# Altium schematic symbol library ABRA-ASH7K-4.SchLib: 1 symbol
Pins are listed as number, name and electrical type; pins without a type are passive.

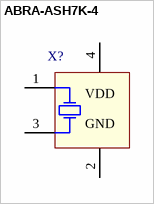
[diagram p0: symbol ABRA-ASH7K-4]

## ABRA-ASH7K-4
designator X?
pins: 1 VIO (power), 2 GND (power), 3 Output (hiz), 4 VDD (power)